# Altium footprint library Beacon_Receive.PcbLib: 15 footprints
Each footprint in its own frame and in the unit in brackets; x right, y up, seen from the top. Pads: shape width x height; smd on the part's side, far side on the other; paste and mask are expansions set on the pad; w line width, h text height; cw(c..) or ccw(c..) is an arc to the next point about the centre after c.
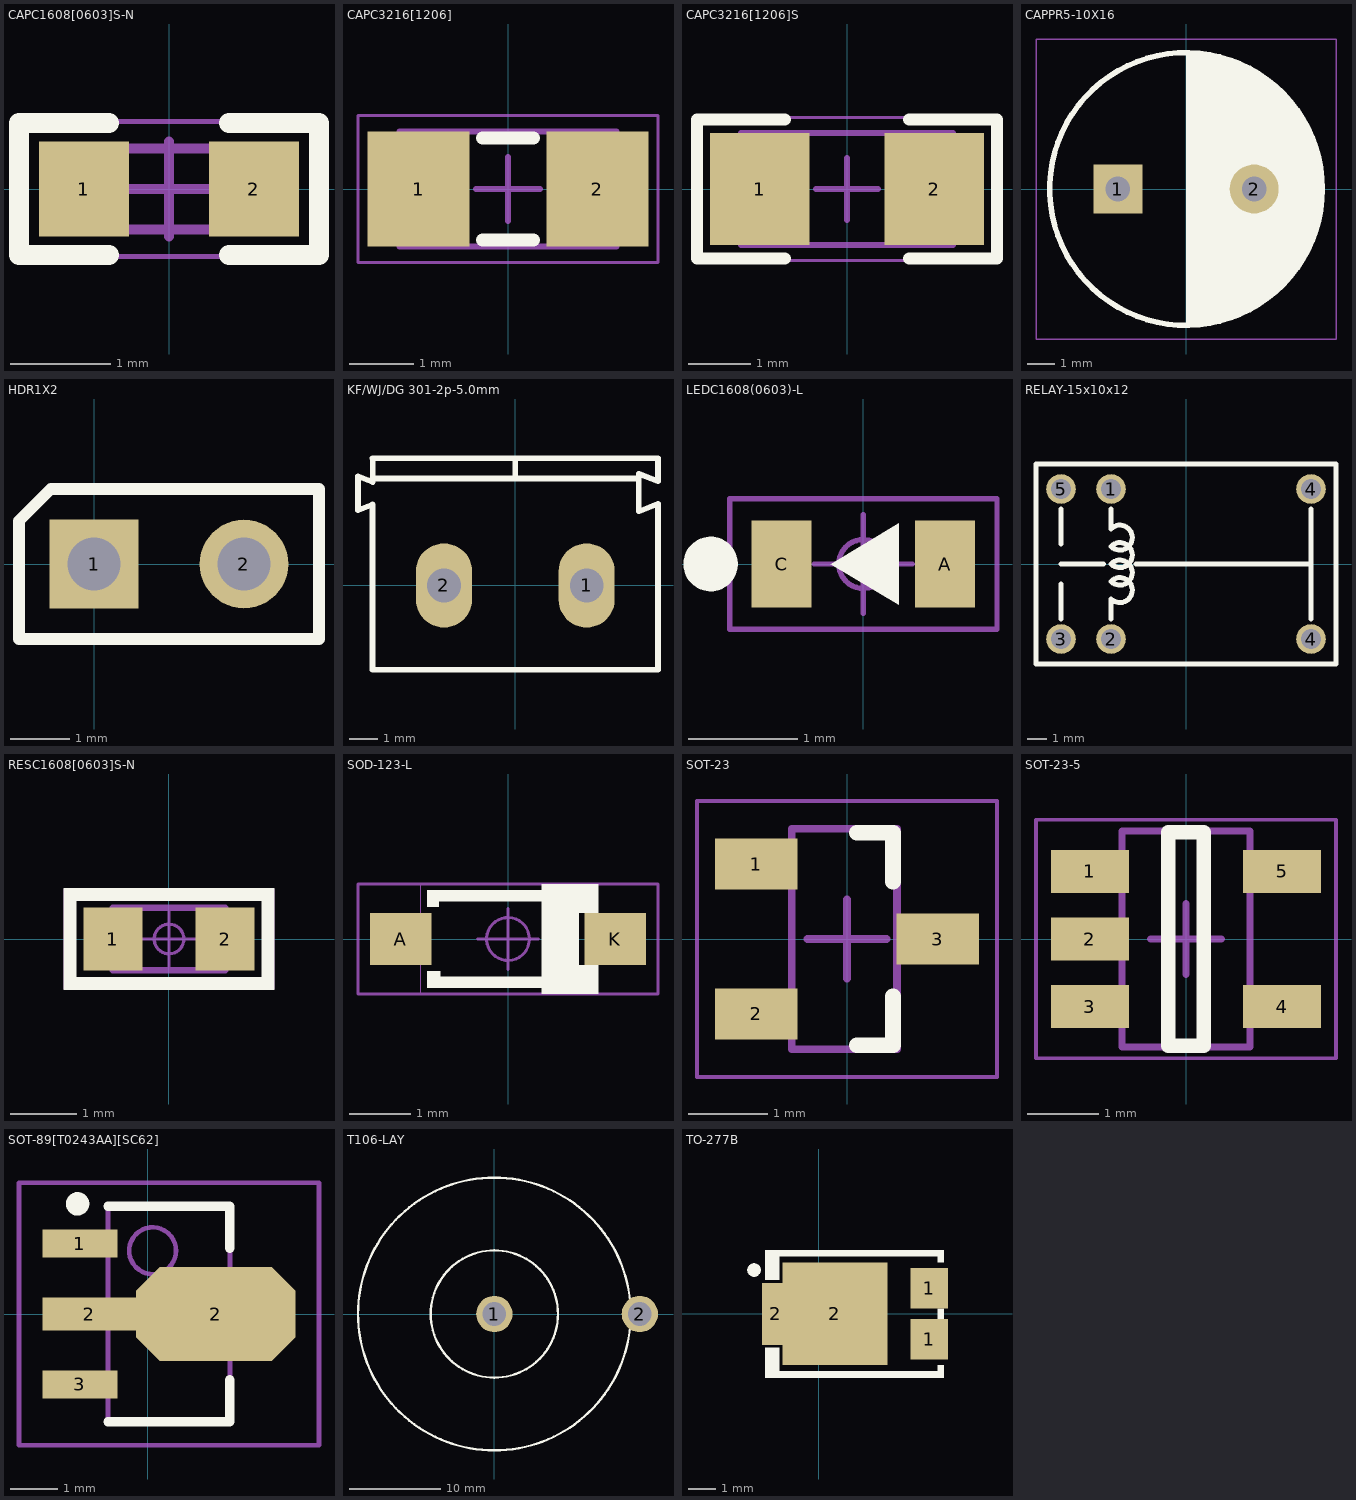
[diagram p0: the footprints below, top view; thin cyan lines are the x and y axes]

## CAPC1608[0603]S-N [mm] "Chip Capacitor,Silkscreen Border,2-Leads, Body 1.60x0.80mm, IPC Medium Density"
height 0.85
pads (2):
  rect 0.9x0.95 smd: 1(-0.85,0) 2(0.85,0)
Top Overlay:
  lines w0.2: -0.6,-0.66 -1.499,-0.66 -1.499,0.66 -0.6,0.66 ; 0.6,-0.66 1.499,-0.66 1.499,0.66 0.6,0.66
Mechanical 13:
  lines w0.1: -0.8,-0.406 -0.8,0.406 0.825,0.406 0.825,-0.406 -0.8,-0.406
Mechanical 15:
  lines w0.05: -1.5,-0.675 1.5,-0.675 1.5,0.675 -1.5,0.675 -1.5,-0.675
  lines w0.1: -0.475,0 0.475,0 ; 0,-0.475 0,0.475
3D body: height 0.79, standoff 0, extent -0.45,-0.406 0.45,0.406
3D body: height 0.79, standoff 0, extent 0.45,-0.406 0.8,0.407
3D body: height 0.79, standoff 0, extent -0.8,-0.406 -0.45,0.406

## CAPC3216[1206] [mm] "Chip Capacitor, 2-Leads, Body 3.20x1.60mm, IPC Medium Density"
height 1.35
pads (2):
  rect 1.6x1.8 smd: 1(-1.4,0) 2(1.4,0)
Top Overlay:
  lines w0.2: -0.4,-0.8 0.4,-0.8 ; -0.4,0.8 0.4,0.8
Mechanical 13:
  lines w0.1: -1.7,-0.9 1.7,-0.9 1.7,0.9 -1.7,0.9 -1.7,-0.9
Mechanical 15:
  lines w0.05: -2.35,-1.15 2.35,-1.15 2.35,1.15 -2.35,1.15 -2.35,-1.15
  lines w0.1: -0.5,0 0.5,0 ; 0,-0.5 0,0.5
3D body: height 1.35, standoff 0, extent 1.2,-0.9 1.7,0.9
3D body: height 1.35, standoff 0, extent -1.7,-0.9 -1.2,0.9
3D body: height 1.35, standoff 0, extent -1.2,-0.9 1.2,0.9

## CAPC3216[1206]S [mm] "Chip Capacitor, Silkscreen Border,2-Leads, Body 3.20x1.60mm, IPC Medium Density"
height 1.35
pads (2):
  rect 1.6x1.8 smd: 1(-1.4,0) 2(1.4,0)
Top Overlay:
  lines w0.2: -1,-1.118 -2.413,-1.118 -2.413,1.118 -1,1.118 ; 1,-1.118 2.413,-1.118 2.413,1.118 1,1.118
Mechanical 13:
  lines w0.1: -1.7,-0.9 -1.7,0.9 1.7,0.9 1.7,-0.9 -1.7,-0.9
Mechanical 15:
  lines w0.05: -2.35,-1.15 -2.35,1.15 2.35,1.15 2.35,-1.15 -2.35,-1.15
  lines w0.1: -0.5,0 0.5,0 ; 0,-0.5 0,0.5
3D body: height 1.35, standoff 0, extent -1.2,-0.9 1.2,0.9
3D body: height 1.35, standoff 0, extent -1.7,-0.9 -1.2,0.9
3D body: height 1.35, standoff 0, extent 1.2,-0.9 1.7,0.9

## CAPPR5-10X16 [mm]
height 1.6
pads (2):
  rect 1.8x1.8 hole 0.9: 1(-2.5,0)
  round 1.8 hole 0.9: 2(2.5,0)
Top Overlay:
  circle w0.2: c0,0 r5
  region: 0,-5 0,5 0.328,5 0.978,4.914 1.611,4.745 2.216,4.494 2.784,4.166 3.304,3.767 3.767,3.304 4.166,2.784 4.494,2.216 4.745,1.611 4.914,0.978 5,0.328 5,-0.328 4.914,-0.978 4.745,-1.611 4.494,-2.216 4.166,-2.784 3.767,-3.304 3.304,-3.767 2.784,-4.166 2.216,-4.494 1.611,-4.745 0.978,-4.914 0.328,-5
Mechanical 15:
  lines w0.05: -5.5,-5.5 -5.5,5.5 5.5,5.5 5.5,-5.5 -5.5,-5.5
3D body "CAPR5-10-16.STEP": height 16, standoff -2.5, extent -5,-4.984 5,4.984

## HDR1X2 [mm] "Connector; Header; 2 Position"
height 1.6
pads (2):
  rect 1.5x1.5 hole 0.9: 1(0,0)
  round 1.5 hole 0.9: 2(2.54,0)
Top Overlay:
  lines w0.2: -1.27,-1.27 -1.27,0.73 -0.73,1.27 3.81,1.27 3.81,-1.27 -1.27,-1.27
3D body "1001-2.STEP": height 8.54, standoff -3, extent -1.27,-1.27 3.81,1.27

## KF/WJ/DG 301-2p-5.0mm [mm] "2P 5.08mm间距 接线端子"
height 1.6
pads (2):
  oval 2x3 hole 1.2: 1(2.54,0) 2(-2.54,0)
Top Overlay:
  lines w0.2: -5.08,2.879 -5.6,2.676 -5.6,3.886 -5.08,3.683 -5.08,4.525 ; 5.08,-2.997 5.08,2.904 4.394,2.636 4.394,3.976 5.08,3.708 5.08,4.525
  lines w0.203: -5.08,2.879 -5.08,-2.997 5.08,-2.997 ; -5.08,3.81 4.365,3.81 ; -5.08,4.525 5.08,4.525 ; 0,3.81 0,4.445
3D body "Terminal-Screw-3A-2way.step": height 10, standoff -3, extent -5.6,-3 5,4.6

## LEDC1608(0603)-L [mm] "LED,Chip;1.60mm L X 0.80mm W X 0.80mm H"
height 0.8
pads (2):
  rect 0.55x0.8 smd: A(0.75,0) C(-0.75,0)
Top Overlay:
  circle w0.25: c-1.4,0 r0.125
  region: -0.3,0 0.325,0.375 0.325,-0.375
Top Designator:
  text ".Designator" at -2.45,-0.226 h1
Top Component Outline:
  lines w0.05: -1.225,-0.6 -1.225,0.6 1.225,0.6 1.225,-0.6 -1.225,-0.6
Top Component Center:
  circle w0.05: c0,0 r0.225
  lines w0.05: -0.45,0 0.45,0 ; 0,-0.45 0,0.45
3D body: height 0.64, standoff 0, extent -0.559,-0.4 0.559,0.4
3D body "0603 (1608) LED Base (Separate Lens).STEP": height 0.64, standoff 0, extent -0.8,-0.4 0.8,0.4

## RELAY-15x10x12 [mm] "继电器"
height 1.6
pads (6):
  round 1.5 hole 1: 1(-3.81,3.81) 2(-3.81,-3.81) 3(-6.35,-3.81) 4(6.35,-3.81) 4(6.35,3.81) 5(-6.35,3.81)
Top Overlay:
  lines w0.254: -6.35,-2.794 -6.35,-1.016 ; -6.35,0 -4.191,0 ; -6.35,1.016 -6.35,2.794 ; -3.81,-2.794 -3.81,-1.778 ccw(c-3.361,-1.329) -3.81,-0.88 ; -3.81,-0.889 ccw(c-3.361,-0.44) -3.81,0.009 ; -3.81,0 ccw(c-3.361,0.449) -3.81,0.898 ; -3.81,0.889 ccw(c-3.361,1.338) -3.81,1.787 -3.81,2.794 ; -2.54,0 6.35,0 ; 6.35,-2.794 6.35,0 ; 6.35,2.794 6.35,0 ; -7.62,-5.08 -7.62,5.08 7.62,5.08 7.62,-5.08 -7.62,-5.08
3D body: height 0.5, standoff -3, extent -6.648,-4.109 -6.05,-3.511
3D body: height 0.5, standoff -3, extent -4.106,-4.109 -3.509,-3.511
3D body: height 0.5, standoff -3, extent 6.054,-4.109 6.651,-3.511
3D body: height 0.5, standoff -3, extent 6.052,3.511 6.65,4.109
3D body: height 0.5, standoff -3, extent -4.108,3.511 -3.51,4.109
3D body: height 0.5, standoff -3, extent -6.648,3.511 -6.05,4.109
3D body: height 12.06, standoff 0, extent -7.62,-5.08 7.62,5.08

## RESC1608[0603]S-N [mm] "0603贴片电阻 有丝印 2脚 1.60x0.80mm IPC中密度"
height 0.6
pads (2):
  rect 0.9x0.95 smd: 1(-0.85,0) 2(0.85,0)
Top Overlay:
  region: 1.6,-0.775 1.6,0.775 1.4,0.775 1.4,-0.775
  region: -1.6,0.775 -1.6,-0.775 -1.4,-0.775 -1.4,0.775
  rectangle: -1.6,0.575 1.6,0.775
  rectangle: -1.6,-0.775 1.6,-0.575
Top Designator:
  text ".Designator" at -2.25,-0.226 h1
Mechanical 13:
  lines w0.1: -0.85,-0.475 -0.85,0.475 0.85,0.475 0.85,-0.475 -0.85,-0.475
Top Component Outline:
  lines w0.05: -1.575,-0.75 -1.575,0.75 1.575,0.75 1.575,-0.75 -1.575,-0.75
Top Component Center:
  circle w0.05: c0,0 r0.225
  lines w0.05: -0.45,0 0.45,0 ; 0,-0.45 0,0.45
3D body "R0603.STEP": height 0.45, standoff 0, extent -0.8,-0.4 0.8,0.4

## SOD-123-L [mm] "SOD Diode;2.70mm W X 1.60mm L X 1.35mm H body"
height 1.35
pads (2):
  rect 1x0.85 smd: A(-1.75,0) K(1.75,0)
Top Overlay:
  rectangle: 0.55,-0.801 1.159,0.799
  rectangle: 0.549,-0.9 1.474,-0.697
  rectangle: -1.143,0.612 0.584,0.8
  rectangle: 0.549,0.697 1.474,0.9
  rectangle: -1.143,-0.8 0.584,-0.612
  rectangle: 1.15,0.425 1.475,0.8
  rectangle: 1.15,-0.8 1.475,-0.425
  region: -1.1,-0.525 -1.325,-0.525 -1.325,-0.8 -1.1,-0.8
  region: -1.125,0.8 -1.325,0.8 -1.325,0.525 -1.125,0.525
Mechanical 15:
  circle w0.05: c0,0 r0.35
  lines w0.001: -1.425,-0.9 -1.425,0.9 1.425,0.9 1.425,-0.9 -1.425,-0.9
  lines w0.05: -0.5,0 0.5,0 ; 0,-0.5 0,0.5 ; -2.45,-0.9 -2.45,0.9 2.45,0.9 2.45,-0.9 -2.45,-0.9
3D body "SOD-123.STEP": height 1.2, standoff 0, extent -1.85,-0.8 1.85,0.8

## SOT-23 [mm] "SOT23, 3-Leads, Body 2.90x2.40mm, Pitch 0.95mm, IPC Medium Density"
height 1.1
pads (3):
  rect 1.05x0.65 smd: 1(-1.15,0.95) 2(-1.15,-0.95) 3(1.15,0)
Top Overlay:
  lines w0.2: 0.127,-1.346 0.584,-1.346 0.584,-0.725 ; 0.127,1.346 0.584,1.346 0.584,0.725
Mechanical 13:
  lines w0.1: -0.7,-1.397 -0.7,1.397 0.635,1.397 0.635,-1.397 -0.7,-1.397
Mechanical 15:
  lines w0.05: -1.9,-1.75 -1.9,1.75 1.9,1.75 1.9,-1.75 -1.9,-1.75
  lines w0.1: -0.5,0 0.5,0 ; 0,-0.5 0,0.5
3D body "SOT-23-3P.STEP": height 1.2, standoff 0, extent -1.4,-1.45 1.4,1.45

## SOT-23-5 [mm] "SOT23, 5-Leads, Body 2.92x2.79mm, Pitch 0.95mm, IPC Medium Density"
height 1.42
pads (5):
  rect 1.1x0.6 smd: 1(-1.35,0.95) 2(-1.35,0) 3(-1.35,-0.95) 4(1.35,-0.95) 5(1.35,0.95)
Top Overlay:
  lines w0.2: -0.25,-1.5 -0.25,1.5 0.25,1.5 0.25,-1.5 -0.25,-1.5
Mechanical 13:
  lines w0.1: -0.9,-1.52 -0.9,1.52 0.9,1.52 0.9,-1.52 -0.9,-1.52
Mechanical 15:
  lines w0.05: -2.108,-1.676 -2.108,1.676 2.108,1.676 2.108,-1.676 -2.108,-1.676
  lines w0.1: -0.5,0 0.5,0 ; 0,-0.5 0,0.5
3D body "SOT-5.stp": height 1.08, standoff -0.01, extent -1.423,-1.461 1.422,1.46

## SOT-89[T0243AA][SC62] [mm] "SOT89, T0243AA,SC62,3-Leads, Body 4.5x2.4 mm, Pitch 1.5mm, Lead Span 4.1mm, IPC Low Density"
height 1.6
pads (4):
  rect 1.6x0.6 smd: 1(-1.45,1.5) 3(-1.45,-1.5)
  rect 2x0.7 smd: 2(-1.25,0)
  oct 3.4x2 smd: 2(1.45,0)
Top Overlay:
  circle w0.25: c-1.5,2.35 r0.125
  lines w0.2: -0.85,-2.3 1.75,-2.3 1.75,-1.4 ; -0.85,2.3 1.75,2.3 1.75,1.4
Mechanical 13:
  circle w0.1: c0.1,1.35 r0.5
  lines w0.1: -0.85,-2.3 -0.85,2.3 1.75,2.3 1.75,-2.3 -0.85,-2.3
Mechanical 15:
  lines w0.1: -0.05,0 0.95,0 ; 0.45,-0.5 0.45,0.5 ; -2.75,-2.8 -2.75,2.8 3.65,2.8 3.65,-2.8 -2.75,-2.8
3D body "SOT89.STEP": height 1.6, standoff 0, extent -1.792,-2.3 2.208,2.3

## T106-LAY [mm]
height 1.6
pads (2):
  round 4 hole 2.6: 1(0,0) 2(16,0)
Top Overlay:
  circle w0.254: c0,0 r7
  circle w0.254: c0,0 r15

## TO-277B [mm] "TO-277B"
height 1.6
pads (4):
  rect 1.4x1.5 smd: 1(4.1,-0.95) 1(4.1,0.95)
  rect 1x2.3 smd: 2(-1.6,0)
  rect 3.9x3.8 smd: 2(0.6,0)
Top Overlay:
  region: 4.624,2.121 4.624,2.375 -2.001,2.375 -2.001,2.121
  rectangle: -2,1.25 -1.45,2.375
  region: -2,-2.121 -2,-2.375 4.65,-2.375 4.65,-2.121
  rectangle: -2,-2.375 -1.45,-1.25
  rectangle: 4.4,1.9 4.654,2.375
  region: 4.654,-1.9 4.4,-1.9 4.4,-2.375 4.654,-2.375
  region: 4.654,0.2 4.4,0.2 4.4,-0.2 4.654,-0.2
  lines w0.254: -2.275,1.635 ccw(c-2.4,1.626) -2.275,1.625
3D body "TO-277A(SMPC).sldprt": height 1.2, standoff 0, extent -2,-2.375 4.65,2.375